# Altium schematic symbol library C2770993.SchLib: 1 symbol
Pins are listed as number, name and electrical type; pins without a type are passive.

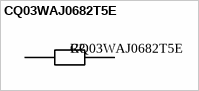
[diagram p0: symbol CQ03WAJ0682T5E]

## CQ03WAJ0682T5E
designator R?
6.8kÎ© Â±5% 100mW 0603 Thick Film Resistor AEC-Q200
footprint R0603 (6.8k? ±5% 100mW 0603 Thick Film Resistor AEC-Q200)
pins: 1, 2